# EAGLE library part LM3478MM (library micromousev2Parts)
Low-side power controller,LM3478MM MSOP8 Source: Datasheet <http://www.ti.com/lit/ds/symlink/lm3478.pdf>
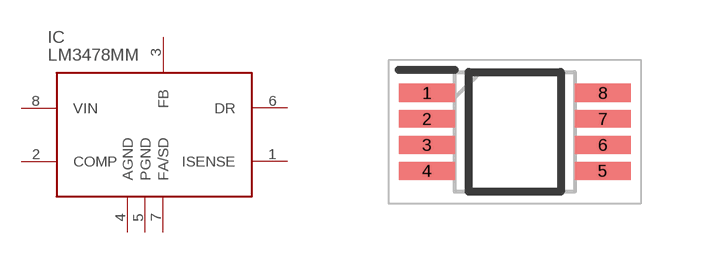
[diagram p10: symbol with the pads of SOP65P490X110-8N; footprint SOP65P490X110-8N]

Designator prefix IC

## LM3478MM (ARROW_PART_NUMBER: LM3478MM; ARROW_PRICE/STOCK: https://www.arrow.com/en/products/lm3478mm/texas-instruments; DESCRIPTION: Low-side power controller,LM3478MM MSOP8; HEIGHT: 1.1mm; MANUFACTURER_NAME: Texas Instruments; MANUFACTURER_PART_NUMBER: LM3478MM; RS_PART_NUMBER: 4713930)  [SOP65P490X110-8N]
1  ISENSE
2  COMP
3  FB
4  AGND  pwr
5  PGND  pwr
6  DR
7  FA/SD
8  VIN  in

## Footprint SOP65P490X110-8N (pad centres in mm)
DGK (S-PDSO-G8)
smd 1.4 x 0.45: 1 -2.2,0.975; 2 -2.2,0.325; 3 -2.2,-0.325; 4 -2.2,-0.975; 5 2.2,-0.975; 6 2.2,-0.325; 7 2.2,0.325; 8 2.2,0.975